# Altium integrated library Antenna.IntLib: 3 symbols
Pins are listed as number, name and electrical type; pins without a type are passive.

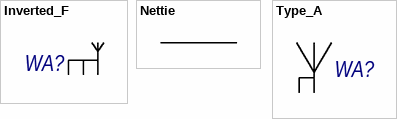
[diagram p0: symbols Inverted_F to Type_A]

## Inverted_F
designator WA?  (value not drawn)  (net tie, no BOM)
Inverted_F antenna
footprint Inverted_F
pins: 1, 2, 3

## Nettie
designator *  (value not drawn)  (net tie, no BOM)
footprint nettie
pins: 1, 2

## Type_A
designator WA?  (value not drawn)  (net tie, no BOM)
Type_A
footprint Type_A
pins: 1, 2